# Altium schematic symbol library Power_Management.SchLib: 280 symbols (part 3 of 3)
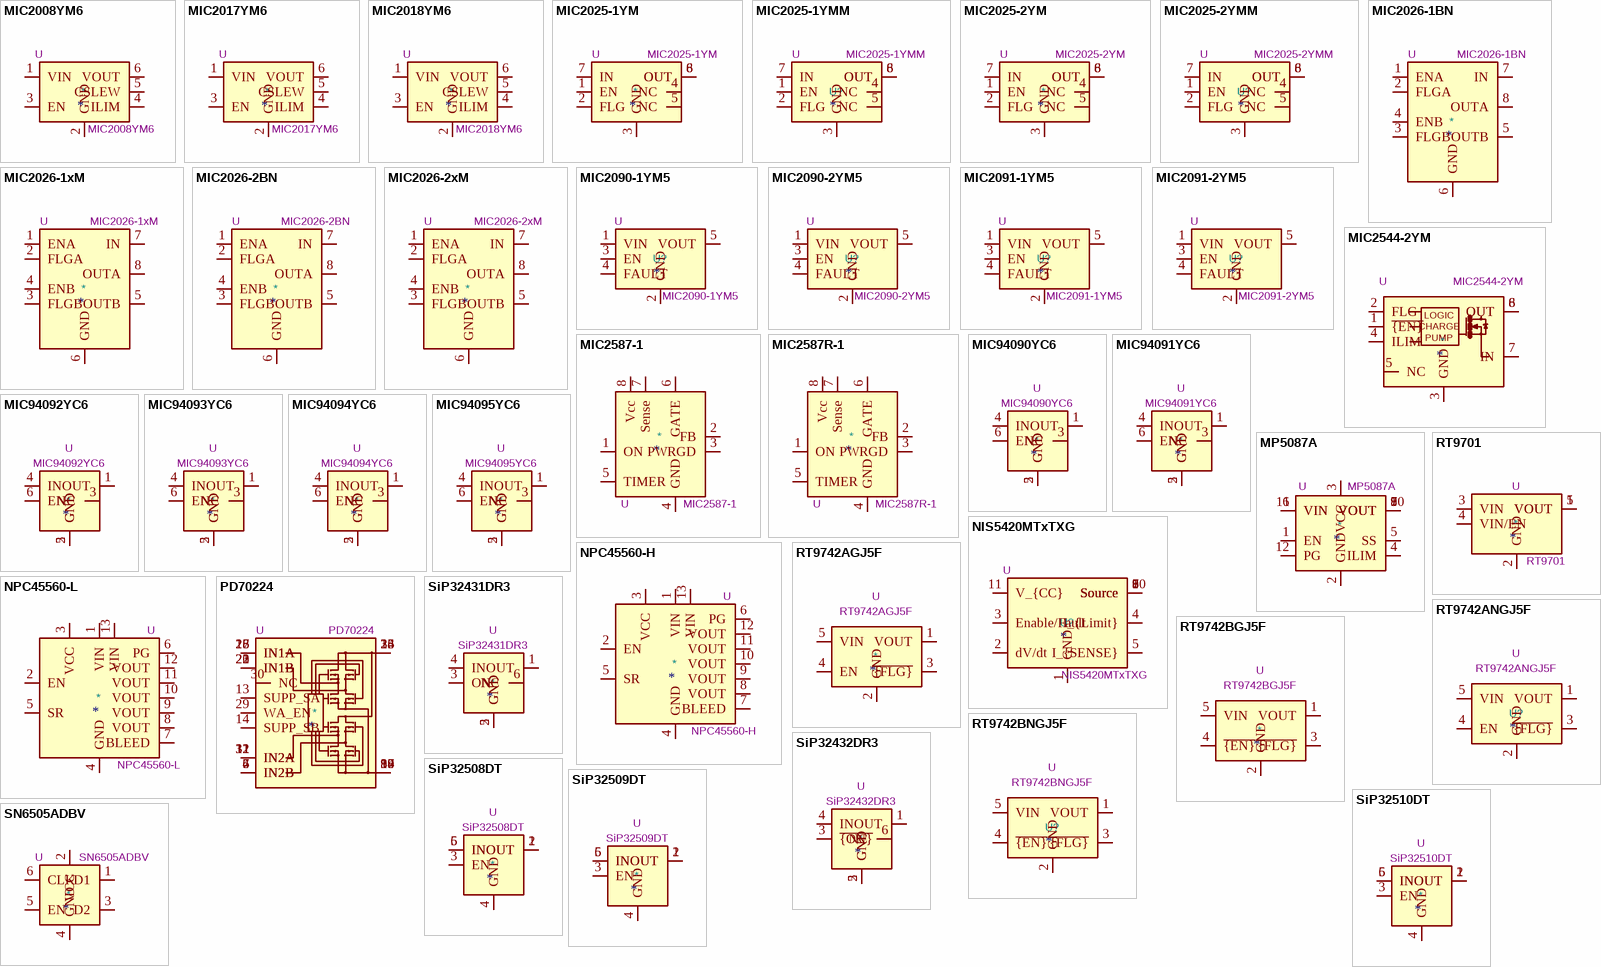
[diagram p9: symbols MIC2008YM6 to SN6505ADBV]

## MIC2025-1YM
designator *  value MIC2025-1YM  Reference: U
Single-channel, high side, power distribution switch, 2.7V-5.5V, Active High Output, SOIC-8; ki_keywords: mosfet distribution; ki_fp_filters: SOIC*3.9x4.9mm*P1.27mm*; Footprint: Package_SO:SOIC-8_3.9x4.9mm_P1.27mm; Datasheet: https://ww1.microchip.com/downloads/en/DeviceDoc/MIC2025-2075-Single-Channel-Power-Distribution-Switch-DS20006030A.pdf; Description_: Single-channel, high side, power distribution switch, 2.7V-5.5V, Active High Output, SOIC-8
pins: 1 EN, 2 FLG, 3 GND, 4 NC, 5 NC, 6 OUT, 7 IN, 8 OUT

## MIC2025-1YMM
designator U?  value MIC2025-1YMM  Reference: U
Single-channel, high side, power distribution switch, 2.7V-5.5V, Active High Output, MSOP-8; ki_keywords: mosfet distribution; ki_fp_filters: MSOP*3x3mm*P0.65mm*; Footprint: Package_SO:MSOP-8_3x3mm_P0.65mm; Datasheet: https://ww1.microchip.com/downloads/en/DeviceDoc/MIC2025-2075-Single-Channel-Power-Distribution-Switch-DS20006030A.pdf; Description_: Single-channel, high side, power distribution switch, 2.7V-5.5V, Active High Output, MSOP-8
pins: 1 EN, 2 FLG, 3 GND, 4 NC, 5 NC, 6 OUT, 7 IN, 8 OUT

## MIC2025-2YM
designator *  value MIC2025-2YM  Reference: U
Single-channel, high side, power distribution switch, 2.7V-5.5V, Active Low Output, SOIC-8; ki_keywords: mosfet distribution; ki_fp_filters: SOIC*3.9x4.9mm*P1.27mm*; Footprint: Package_SO:SOIC-8_3.9x4.9mm_P1.27mm; Datasheet: https://ww1.microchip.com/downloads/en/DeviceDoc/MIC2025-2075-Single-Channel-Power-Distribution-Switch-DS20006030A.pdf; Description_: Single-channel, high side, power distribution switch, 2.7V-5.5V, Active Low Output, SOIC-8
pins: 1 EN, 2 FLG, 3 GND, 4 NC, 5 NC, 6 OUT, 7 IN, 8 OUT

## MIC2025-2YMM
designator U?  value MIC2025-2YMM  Reference: U
Single-channel, high side, power distribution switch, 2.7V-5.5V, Active Low Output, MSOP-8; ki_keywords: mosfet distribution; ki_fp_filters: MSOP*3x3mm*P0.65mm*; Footprint: Package_SO:MSOP-8_3x3mm_P0.65mm; Datasheet: https://ww1.microchip.com/downloads/en/DeviceDoc/MIC2025-2075-Single-Channel-Power-Distribution-Switch-DS20006030A.pdf; Description_: Single-channel, high side, power distribution switch, 2.7V-5.5V, Active Low Output, MSOP-8
pins: 1 EN, 2 FLG, 3 GND, 4 NC, 5 NC, 6 OUT, 7 IN, 8 OUT

## MIC2026-1BN
designator *  value MIC2026-1BN  Reference: U
Dual-channel, high side, power distribution switch, 2.7V-5.5V, Active High Output, DIP-8; ki_keywords: mosfet distribution; ki_fp_filters: DIP*W7.62mm*; Footprint: Package_DIP:DIP-8_W7.62mm; Datasheet: http://ww1.microchip.com/downloads/en/DeviceDoc/mic2026.pdf; Description_: Dual-channel, high side, power distribution switch, 2.7V-5.5V, Active High Output, DIP-8
pins: 1 ENA, 2 FLGA, 3 FLGB, 4 ENB, 5 OUTB, 6 GND, 7 IN, 8 OUTA

## MIC2026-1xM
designator *  value MIC2026-1xM  Reference: U
Dual-channel, high side, power distribution switch, 2.7V-5.5V, Active High Output, SOIC-8; ki_keywords: mosfet distribution; ki_fp_filters: SOIC*3.9x4.9mm*P1.27mm*; Footprint: Package_SO:SOIC-8_3.9x4.9mm_P1.27mm; Datasheet: https://ww1.microchip.com/downloads/aemDocuments/documents/APID/ProductDocuments/DataSheets/MIC2026-MIC2076-Dual-Channel-Power-Distribution-Switch-DS20006443A.pdf; Description_: Dual-channel, high side, power distribution switch, 2.7V-5.5V, Active High Output, SOIC-8
pins: 1 ENA, 2 FLGA, 3 FLGB, 4 ENB, 5 OUTB, 6 GND, 7 IN, 8 OUTA

## MIC2026-2BN
designator *  value MIC2026-2BN  Reference: U
Dual-channel, high side, power distribution switch, 2.7V-5.5V, Active Low Output, DIP-8; ki_keywords: mosfet distribution; ki_fp_filters: DIP*W7.62mm*; Footprint: Package_DIP:DIP-8_W7.62mm; Datasheet: http://ww1.microchip.com/downloads/en/DeviceDoc/mic2026.pdf; Description_: Dual-channel, high side, power distribution switch, 2.7V-5.5V, Active Low Output, DIP-8
pins: 1 ENA, 2 FLGA, 3 FLGB, 4 ENB, 5 OUTB, 6 GND, 7 IN, 8 OUTA

## MIC2026-2xM
designator *  value MIC2026-2xM  Reference: U
Dual-channel, high side, power distribution switch, 2.7V-5.5V, Active Low Output, SOIC-8; ki_keywords: mosfet distribution; ki_fp_filters: SOIC*3.9x4.9mm*P1.27mm*; Footprint: Package_SO:SOIC-8_3.9x4.9mm_P1.27mm; Datasheet: https://ww1.microchip.com/downloads/aemDocuments/documents/APID/ProductDocuments/DataSheets/MIC2026-MIC2076-Dual-Channel-Power-Distribution-Switch-DS20006443A.pdf; Description_: Dual-channel, high side, power distribution switch, 2.7V-5.5V, Active Low Output, SOIC-8
pins: 1 ENA, 2 FLGA, 3 FLGB, 4 ENB, 5 OUTB, 6 GND, 7 IN, 8 OUTA

## MIC2090-1YM5
designator U?  value MIC2090-1YM5  Reference: U
Single-channel, high side, power distribution switch, 790mOhm Ron, auto-retry, 1.8V-5.5V, 50 mA, SOT-23-5; ki_keywords: mosfet distribution current limit; ki_fp_filters: SOT?23*; Footprint: Package_TO_SOT_SMD:SOT-23-5; Datasheet: https://ww1.microchip.com/downloads/aemDocuments/documents/APID/ProductDocuments/DataSheets/MIC2090-1-Current-Limiting-Power-Distribution-Switches-DS20006611A.pdf; Description_: Single-channel, high side, power distribution switch, 790mOhm Ron, auto-retry, 1.8V-5.5V, 50 mA, SOT-23-5
pins: 1 VIN, 2 GND, 3 EN, 4 FAULT, 5 VOUT

## MIC2090-2YM5
designator U?  value MIC2090-2YM5  Reference: U
Single-channel, high side, power distribution switch, 790mOhm Ron, latch-off on current limit, 1.8V-5.5V, 50 mA, SOT-23-5; ki_keywords: mosfet distribution current limit; ki_fp_filters: SOT?23*; Footprint: Package_TO_SOT_SMD:SOT-23-5; Datasheet: https://ww1.microchip.com/downloads/aemDocuments/documents/APID/ProductDocuments/DataSheets/MIC2090-1-Current-Limiting-Power-Distribution-Switches-DS20006611A.pdf; Description_: Single-channel, high side, power distribution switch, 790mOhm Ron, latch-off on current limit, 1.8V-5.5V, 50 mA, SOT-23-5
pins: 1 VIN, 2 GND, 3 EN, 4 FAULT, 5 VOUT

## MIC2091-1YM5
designator U?  value MIC2091-1YM5  Reference: U
Single-channel, high side, power distribution switch, 790mOhm Ron, auto-retry feature, 1.8V-5.5V, 100 mA, SOT-23-5; ki_keywords: mosfet distribution current limit; ki_fp_filters: SOT?23*; Footprint: Package_TO_SOT_SMD:SOT-23-5; Datasheet: https://ww1.microchip.com/downloads/aemDocuments/documents/APID/ProductDocuments/DataSheets/MIC2090-1-Current-Limiting-Power-Distribution-Switches-DS20006611A.pdf; Description_: Single-channel, high side, power distribution switch, 790mOhm Ron, auto-retry feature, 1.8V-5.5V, 100 mA, SOT-23-5
pins: 1 VIN, 2 GND, 3 EN, 4 FAULT, 5 VOUT

## MIC2091-2YM5
designator U?  value MIC2091-2YM5  Reference: U
Single-channel, high side, power distribution switch, 790mOhm Ron, latch-off on current limit, 1.8V-5.5V, 100 mA, SOT-23-5; ki_keywords: mosfet distribution current limit; ki_fp_filters: SOT?23*; Footprint: Package_TO_SOT_SMD:SOT-23-5; Datasheet: https://ww1.microchip.com/downloads/aemDocuments/documents/APID/ProductDocuments/DataSheets/MIC2090-1-Current-Limiting-Power-Distribution-Switches-DS20006611A.pdf; Description_: Single-channel, high side, power distribution switch, 790mOhm Ron, latch-off on current limit, 1.8V-5.5V, 100 mA, SOT-23-5
pins: 1 VIN, 2 GND, 3 EN, 4 FAULT, 5 VOUT

## MIC2544-2YM
designator *  value MIC2544-2YM  Reference: U
Programmable Current Sense High Side Switch, 2.7-5.5V, 1.5A, SOIC-8; ki_fp_filters: SOIC?8*; Footprint: Package_SO:SOIC-8_3.9x4.9mm_P1.27mm; Datasheet: https://ww1.microchip.com/downloads/en/DeviceDoc/20005725B.pdf; Description_: Programmable Current Sense High Side Switch, 2.7-5.5V, 1.5A, SOIC-8; ki_keywords: high side switch
pins: 1 ~{{EN}}, 2 FLG, 3 GND, 4 ILIM, 5 NC, 6 OUT, 7 IN, 8 OUT
text: LOGIC; CHARGE; PUMP

## MIC2587-1
designator *  value MIC2587-1  Reference: U
Positive high voltage hot swap controller +10V to +80V with latched operation; ki_keywords: power switch FET driver; ki_fp_filters: SOIC*3.9x4.9mm*P1.27mm*; Footprint: Package_SO:SOIC-8_3.9x4.9mm_P1.27mm; Datasheet: http://ww1.microchip.com/downloads/en/DeviceDoc/mic2587-87r.pdf; Description_: Positive high voltage hot swap controller +10V to +80V with latched operation
pins: 1 ON, 2 FB, 3 PWRGD, 4 GND, 5 TIMER, 6 GATE, 7 Sense, 8 Vcc

## MIC2587R-1
designator *  value MIC2587R-1  Reference: U
Positive high voltage hot swap controller +10V to +80V with auto-retry operation; ki_keywords: power switch FET driver; ki_fp_filters: SOIC*3.9x4.9mm*P1.27mm*; Footprint: Package_SO:SOIC-8_3.9x4.9mm_P1.27mm; Datasheet: http://ww1.microchip.com/downloads/en/DeviceDoc/mic2587-87r.pdf; Description_: Positive high voltage hot swap controller +10V to +80V with auto-retry operation
pins: 1 ON, 2 FB, 3 PWRGD, 4 GND, 5 TIMER, 6 GATE, 7 Sense, 8 Vcc

## MIC94090YC6
designator *  value MIC94090YC6  Reference: U
High Side Load Switches for Consumer Applications, 1.7..5.5V, 1.2A, 130mΩ, Fast Turn On, SC-70-6; ki_keywords: load-switch Microchip D1D; ki_fp_filters: *SC?70*; Footprint: Package_TO_SOT_SMD:SOT-363_SC-70-6; Datasheet: https://ww1.microchip.com/downloads/aemDocuments/documents/APID/ProductDocuments/DataSheets/MIC94090-1-2-3-4-5-High-Side-Load-Switches-for-Consumer-Applications-DS20006706.pdf; Description_: High Side Load Switches for Consumer Applications, 1.7..5.5V, 1.2A, 130mΩ, Fast Turn On, SC-70-6
pins: 1 OUT, 2 GND, 3 NC, 4 IN, 5 GND, 6 EN

## MIC94091YC6
designator *  value MIC94091YC6  Reference: U
High Side Load Switches for Consumer Applications, 1.7..5.5V, 1.2A, 130mΩ, Fast Turn On, Load Discharge, SC-70-6; ki_keywords: load-switch Microchip D2D; ki_fp_filters: *SC?70*; Footprint: Package_TO_SOT_SMD:SOT-363_SC-70-6; Datasheet: https://ww1.microchip.com/downloads/aemDocuments/documents/APID/ProductDocuments/DataSheets/MIC94090-1-2-3-4-5-High-Side-Load-Switches-for-Consumer-Applications-DS20006706.pdf; Description_: High Side Load Switches for Consumer Applications, 1.7..5.5V, 1.2A, 130mΩ, Fast Turn On, Load Discharge, SC-70-6
pins: 1 OUT, 2 GND, 3 NC, 4 IN, 5 GND, 6 EN

## MIC94092YC6
designator *  value MIC94092YC6  Reference: U
High Side Load Switches for Consumer Applications, 1.7..5.5V, 1.2A, 130mΩ, 790 µs Soft-Start, SC-70-6; ki_keywords: load-switch Microchip D5D; ki_fp_filters: *SC?70*; Footprint: Package_TO_SOT_SMD:SOT-363_SC-70-6; Datasheet: https://ww1.microchip.com/downloads/aemDocuments/documents/APID/ProductDocuments/DataSheets/MIC94090-1-2-3-4-5-High-Side-Load-Switches-for-Consumer-Applications-DS20006706.pdf; Description_: High Side Load Switches for Consumer Applications, 1.7..5.5V, 1.2A, 130mΩ, 790 µs Soft-Start, SC-70-6
pins: 1 OUT, 2 GND, 3 NC, 4 IN, 5 GND, 6 EN

## MIC94093YC6
designator *  value MIC94093YC6  Reference: U
High Side Load Switches for Consumer Applications, 1.7..5.5V, 1.2A, 130mΩ, 790 µs Soft-Start, Load Discharge, SC-70-6; ki_keywords: load-switch Microchip D7D; ki_fp_filters: *SC?70*; Footprint: Package_TO_SOT_SMD:SOT-363_SC-70-6; Datasheet: https://ww1.microchip.com/downloads/aemDocuments/documents/APID/ProductDocuments/DataSheets/MIC94090-1-2-3-4-5-High-Side-Load-Switches-for-Consumer-Applications-DS20006706.pdf; Description_: High Side Load Switches for Consumer Applications, 1.7..5.5V, 1.2A, 130mΩ, 790 µs Soft-Start, Load Discharge, SC-70-6
pins: 1 OUT, 2 GND, 3 NC, 4 IN, 5 GND, 6 EN

## MIC94094YC6
designator *  value MIC94094YC6  Reference: U
High Side Load Switches for Consumer Applications, 1.7..5.5V, 1.2A, 130mΩ, 120 µs Soft-Start, SC-70-6; ki_keywords: load-switch Microchip 0DD; ki_fp_filters: *SC?70*; Footprint: Package_TO_SOT_SMD:SOT-363_SC-70-6; Datasheet: https://ww1.microchip.com/downloads/aemDocuments/documents/APID/ProductDocuments/DataSheets/MIC94090-1-2-3-4-5-High-Side-Load-Switches-for-Consumer-Applications-DS20006706.pdf; Description_: High Side Load Switches for Consumer Applications, 1.7..5.5V, 1.2A, 130mΩ, 120 µs Soft-Start, SC-70-6
pins: 1 OUT, 2 GND, 3 NC, 4 IN, 5 GND, 6 EN

## MIC94095YC6
designator *  value MIC94095YC6  Reference: U
High Side Load Switches for Consumer Applications, 1.7..5.5V, 1.2A, 130mΩ, 120 µs Soft-Start, Load Discharge, SC-70-6; ki_keywords: load-switch Microchip 1DD; ki_fp_filters: *SC?70*; Footprint: Package_TO_SOT_SMD:SOT-363_SC-70-6; Datasheet: https://ww1.microchip.com/downloads/aemDocuments/documents/APID/ProductDocuments/DataSheets/MIC94090-1-2-3-4-5-High-Side-Load-Switches-for-Consumer-Applications-DS20006706.pdf; Description_: High Side Load Switches for Consumer Applications, 1.7..5.5V, 1.2A, 130mΩ, 120 µs Soft-Start, Load Discharge, SC-70-6
pins: 1 OUT, 2 GND, 3 NC, 4 IN, 5 GND, 6 EN

## MP5087A
designator *  value MP5087A  Reference: U
5.5V / 7A Low RDSON Load Switch with Programmable Current Limit, VQFN-12; ki_keywords: MPS; ki_fp_filters: *QFN*2x2mm*P0.4mm*; Footprint: Package_DFN_QFN:MPS_QFN-12_2x2mm_P0.4mm; Datasheet: https://www.monolithicpower.com/en/documentview/productdocument/index/version/2/document_type/Datasheet/lang/en/sku/MP5087A/; Description_: 5.5V / 7A Low RDSON Load Switch with Programmable Current Limit, VQFN-12
pins: 1 EN, 2 GND, 3 VCC, 4 ILIM, 5 SS, 6 VIN, 7 VOUT, 8 VOUT, 9 VOUT, 10 VOUT, 11 VIN, 12 PG

## NIS5420MTxTXG
designator U?  value NIS5420MTxTXG  Reference: U
ON Semi, +12V Electronic Fuse, 4.6A, WDFN-10; ki_keywords: 12V efuse resettable fuse; ki_fp_filters: WDFN*1EP*3x3mm*P0.5mm*; Footprint: Package_DFN_QFN:WDFN-10-1EP_3x3mm_P0.5mm_EP1.8x2.5mm; Datasheet: https://www.onsemi.com/pdf/datasheet/nis5420-d.pdf; Description_: ON Semi, +12V Electronic Fuse, 4.6A, WDFN-10
pins: 1 GND, 2 dV/dt, 3 Enable/Fault, 4 I_{Limit}, 5 I_{SENSE}, 6 Source, 7 Source, 8 Source, 9 Source, 10 Source, 11 V_{CC}

## NPC45560-H
designator *  value NPC45560-H  Reference: U
Controlled load switch with low Ron, DFN-12; ki_fp_filters: DFN*1EP?3x3mm?P0.5mm*; Footprint: Package_DFN_QFN:DFN-12-1EP_3x3mm_P0.5mm_EP2.05x2.86mm; Datasheet: http://www.onsemi.com/pub/Collateral/NCP45560-D.PDF; Description_: Controlled load switch with low Ron, DFN-12; ki_keywords: load switch
pins: 1 VIN, 2 EN, 3 VCC, 4 GND, 5 SR, 6 PG, 7 BLEED, 8 VOUT, 9 VOUT, 10 VOUT, 11 VOUT, 12 VOUT, 13 VIN

## NPC45560-L
designator *  value NPC45560-L  Reference: U
Controlled load switch with low Ron, DFN-12; ki_fp_filters: *DFN*12*; Footprint: Package_DFN_QFN:DFN-12-1EP_3x3mm_P0.5mm_EP2.05x2.86mm; Datasheet: http://www.onsemi.com/pub/Collateral/NCP45560-D.PDF; Description_: Controlled load switch with low Ron, DFN-12; ki_keywords: load switch
pins: 1 VIN, 2 EN, 3 VCC, 4 GND, 5 SR, 6 PG, 7 BLEED, 8 VOUT, 9 VOUT, 10 VOUT, 11 VOUT, 12 VOUT, 13 VIN

## PD70224
designator *  value PD70224  Reference: U
Ideal Dual Diode Bridge, QFN-40; ki_keywords: dual ideal diode bridge; ki_fp_filters: Microsemi*QFN*6x8mm*P0.5mm*; Footprint: Package_DFN_QFN:Microsemi_QFN-40-32-2EP_6x8mm_P0.5mm; Datasheet: https://www.microsemi.com/document-portal/doc_download/131677-pd70224-data-sheet; Description_: Ideal Dual Diode Bridge, QFN-40
pins: 1, 2, 3, 4 IN2B, 5 IN2B, 6 IN2B, 7 IN2B, 8, 9, 10, 11 IN2A, 12 IN2A, 13 SUPP_SA, 14 SUPP_SB, 15 IN1A, 16 IN1A, 17, 18, 19, 20 IN1B, 21 IN1B, 22 IN1B, 23 IN1B, 24, 25, 26, 27 IN1A, 28 IN1A, 29 WA_EN, 30 NC, 31 IN2A, 32 IN2A, 33, 34

## RT9701
designator *  value RT9701  Reference: U
100 milliohm power distribution switch, SOT-25; ki_fp_filters: SOT?23*; Datasheet: https://www.richtek.com/Products/Power%20Switch/RT9701?sc_lang=en; Description_: 100 milliohm power distribution switch, SOT-25; ki_keywords: power distribution switch
pins: 1 VOUT, 2 GND, 3 VIN, 4 VIN/EN, 5 VOUT

## RT9742AGJ5F
designator *  value RT9742AGJ5F  Reference: U
3A, Discharge, Active High EN, TSOT-23-5; ki_keywords: Power Switch; ki_fp_filters: TSOT?23*; Footprint: Package_TO_SOT_SMD:TSOT-23-5; Datasheet: https://www.richtek.com/assets/product_file/RT9742/DS9742-10.pdf; Description_: 3A, Discharge, Active High EN, TSOT-23-5
pins: 1 VOUT, 2 GND, 3 ~{{FLG}}, 4 EN, 5 VIN

## RT9742ANGJ5F
designator U?  value RT9742ANGJ5F  Reference: U
3A, Active High EN, TSOT-23-5; ki_keywords: Power Switch; ki_fp_filters: TSOT?23*; Footprint: Package_TO_SOT_SMD:TSOT-23-5; Datasheet: https://www.richtek.com/assets/product_file/RT9742/DS9742-10.pdf; Description_: 3A, Active High EN, TSOT-23-5
pins: 1 VOUT, 2 GND, 3 ~{{FLG}}, 4 EN, 5 VIN

## RT9742BGJ5F
designator *  value RT9742BGJ5F  Reference: U
3A, Discharge, Active Low EN, TSOT-23-5; ki_keywords: Power Switch; ki_fp_filters: TSOT?23*; Footprint: Package_TO_SOT_SMD:TSOT-23-5; Datasheet: https://www.richtek.com/assets/product_file/RT9742/DS9742-10.pdf; Description_: 3A, Discharge, Active Low EN, TSOT-23-5
pins: 1 VOUT, 2 GND, 3 ~{{FLG}}, 4 ~{{EN}}, 5 VIN

## RT9742BNGJ5F
designator U?  value RT9742BNGJ5F  Reference: U
3A, Active Low EN, TSOT-23-5; ki_keywords: Power Switch; ki_fp_filters: TSOT?23*; Footprint: Package_TO_SOT_SMD:TSOT-23-5; Datasheet: https://www.richtek.com/assets/product_file/RT9742/DS9742-10.pdf; Description_: 3A, Active Low EN, TSOT-23-5
pins: 1 VOUT, 2 GND, 3 ~{{FLG}}, 4 ~{{EN}}, 5 VIN

## SiP32431DR3
designator *  value SiP32431DR3  Reference: U
10 pA, Ultra Low Leakage and Quiescent Current, Load Switch with Reverse Blocking, High Enable, SC-70-6; ki_fp_filters: *SC?70*; Footprint: Package_TO_SOT_SMD:SOT-363_SC-70-6; Datasheet: http://www.vishay.com.hk/docs/66597/sip32431.pdf; Description_: 10 pA, Ultra Low Leakage and Quiescent Current, Load Switch with Reverse Blocking, High Enable, SC-70-6; ki_keywords: Load switch
pins: 1 OUT, 2 GND, 3 ON, 4 IN, 5 GND, 6 NC

## SiP32432DR3
designator *  value SiP32432DR3  Reference: U
10 pA, Ultra Low Leakage and Quiescent Current, Load Switch with Reverse Blocking, Low Enable, SC-70-6; ki_fp_filters: *SC?70*; Footprint: Package_TO_SOT_SMD:SOT-363_SC-70-6; Datasheet: http://www.vishay.com.hk/docs/66597/sip32431.pdf; Description_: 10 pA, Ultra Low Leakage and Quiescent Current, Load Switch with Reverse Blocking, Low Enable, SC-70-6; ki_keywords: Load switch
pins: 1 OUT, 2 GND, 3 ~{{ON}}, 4 IN, 5 GND, 6 NC

## SiP32508DT
designator *  value SiP32508DT  Reference: U
1.1 V to 5.5 V, Slew Rate Controlled Load Switch, TSOT23-6; ki_fp_filters: *TSOT?23*; Footprint: Package_TO_SOT_SMD:TSOT-23-6; Datasheet: https://www.vishay.com/docs/62754/sip32508.pdf; Description_: 1.1 V to 5.5 V, Slew Rate Controlled Load Switch, TSOT23-6; ki_keywords: Load switch
pins: 1 OUT, 2 OUT, 3 EN, 4 GND, 5 IN, 6 IN

## SiP32509DT
designator *  value SiP32509DT  Reference: U
1.1 V to 5.5 V, Slew Rate Controlled Load Switch with Discharge Circuit, TSOT23-6; ki_fp_filters: *TSOT?23*; Footprint: Package_TO_SOT_SMD:TSOT-23-6; Datasheet: https://www.vishay.com/docs/62754/sip32508.pdf; Description_: 1.1 V to 5.5 V, Slew Rate Controlled Load Switch with Discharge Circuit, TSOT23-6; ki_keywords: Load switch
pins: 1 OUT, 2 OUT, 3 EN, 4 GND, 5 IN, 6 IN

## SiP32510DT
designator *  value SiP32510DT  Reference: U
1.2 V to 5.5 V, Slew Rate Controlled Load Switch with Discharge Circuit, TSOT23-6; ki_fp_filters: *TSOT?23*; Footprint: Package_TO_SOT_SMD:TSOT-23-6; Datasheet: https://www.vishay.com/docs/63577/sip32510.pdf; Description_: 1.2 V to 5.5 V, Slew Rate Controlled Load Switch with Discharge Circuit, TSOT23-6; ki_keywords: Load switch
pins: 1 OUT, 2 OUT, 3 EN, 4 GND, 5 IN, 6 IN

## SN6505ADBV
designator *  value SN6505ADBV  Reference: U
Low Noise, 1A, Transformer Drivers for Isolated Power Supplies, 160 kHz, SOT-23-6; ki_fp_filters: SOT?23*; Footprint: Package_TO_SOT_SMD:SOT-23-6; Datasheet: http://www.ti.com/lit/ds/symlink/sn6505b.pdf; Description_: Low Noise, 1A, Transformer Drivers for Isolated Power Supplies, 160 kHz, SOT-23-6; ki_keywords: Transformer Drivers
pins: 1 D1, 2 VCC, 3 D2, 4 GND, 5 EN, 6 CLK

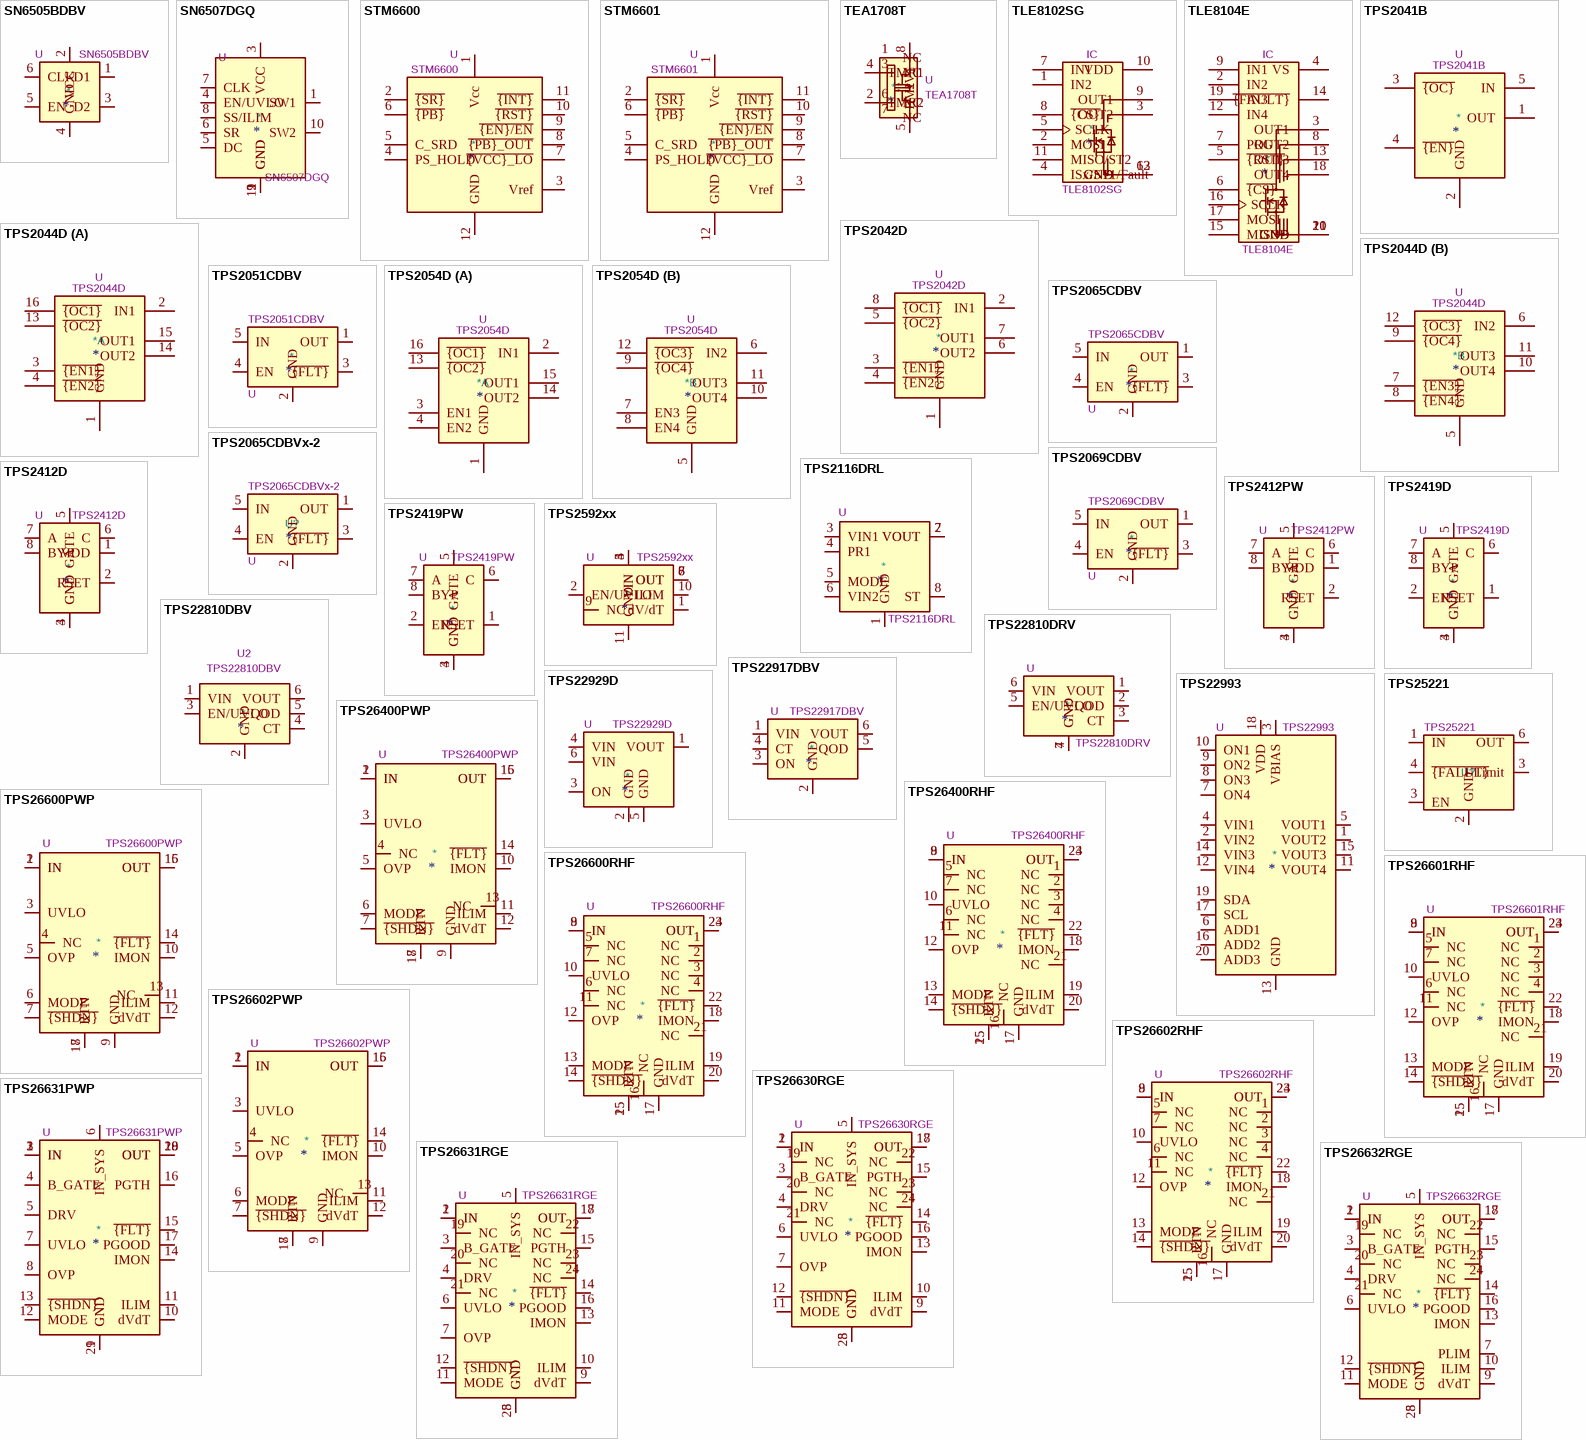
[diagram p6: symbols SN6505BDBV to TPS26632RGE]

## SN6505BDBV
designator *  value SN6505BDBV  Reference: U
Low Noise, 1A, Transformer Drivers for Isolated Power Supplies, 420 kHz, SOT-23-6; ki_fp_filters: SOT?23*; Footprint: Package_TO_SOT_SMD:SOT-23-6; Datasheet: http://www.ti.com/lit/ds/symlink/sn6505b.pdf; Description_: Low Noise, 1A, Transformer Drivers for Isolated Power Supplies, 420 kHz, SOT-23-6; ki_keywords: Transformer Drivers
pins: 1 D1, 2 VCC, 3 D2, 4 GND, 5 EN, 6 CLK

## SN6507DGQ
designator *  value SN6507DGQ  Reference: U
Low Noise, 0.5A, spread spectrum 36V Push-Pull-Transformer Drivers for Isolated Power Supplies, HVSSOP-10; ki_fp_filters: HVSSOP*3x3mm*P0.5mm*; Footprint: Package_SO:HVSSOP-10-1EP_3x3mm_P0.5mm_EP1.57x1.88mm; Datasheet: http://www.ti.com/lit/ds/symlink/sn6507.pdf; Description_: Low Noise, 0.5A, spread spectrum 36V Push-Pull-Transformer Drivers for Isolated Power Supplies, HVSSOP-10; ki_keywords: Transformer Drivers
pins: 1 SW1, 2 GND, 3 VCC, 4 EN/UVLO, 5 DC, 6 SR, 7 CLK, 8 SS/ILIM, 9 GND, 10 SW2, 11 GND

## STM6600
designator *  value STM6600  Reference: U
Smart push-button on/off controller, power-on lockout, Low Power, 1.6-5.5V, TDFN12; ki_keywords: push-button-controller low-power; ki_fp_filters: TDFN*2x3mm*P0.5mm*; Footprint: Package_DFN_QFN:TDFN-12_2x3mm_P0.5mm; Datasheet: http://www.st.com/resource/en/datasheet/stm6600.pdf; Description_: Smart push-button on/off controller, power-on lockout, Low Power, 1.6-5.5V, TDFN12
pins: 1 Vcc, 2 ~{{SR}}, 3 Vref, 4 PS_HOLD, 5 C_SRD, 6 ~{{PB}}, 7 ~{{VCC}_LO}, 8 ~{{PB}_OUT}, 9 ~{{EN}/EN}, 10 ~{{RST}}, 11 ~{{INT}}, 12 GND

## STM6601
designator *  value STM6601  Reference: U
Smart push-button on/off controller, power-on lockout, Low Power, 1.6-5.5V, TDFN12; ki_keywords: push-button-controller low-power; ki_fp_filters: TDFN*2x3mm*P0.5mm*; Footprint: Package_DFN_QFN:TDFN-12_2x3mm_P0.5mm; Datasheet: http://www.st.com/resource/en/datasheet/stm6600.pdf; Description_: Smart push-button on/off controller, power-on lockout, Low Power, 1.6-5.5V, TDFN12
pins: 1 Vcc, 2 ~{{SR}}, 3 Vref, 4 PS_HOLD, 5 C_SRD, 6 ~{{PB}}, 7 ~{{VCC}_LO}, 8 ~{{PB}_OUT}, 9 ~{{EN}/EN}, 10 ~{{RST}}, 11 ~{{INT}}, 12 GND

## TEA1708T
designator *  value TEA1708T  Reference: U
GreenChip X capacitor discharge IC, SOIC-8; ki_fp_filters: SOIC*3.9x4.9mm*P1.27mm*; Footprint: Package_SO:SOIC-8_3.9x4.9mm_P1.27mm; Datasheet: https://www.nxp.com/docs/en/data-sheet/TEA1708TDS.pdf; Description_: GreenChip X capacitor discharge IC, SOIC-8; ki_keywords: X capacitor discharge
pins: 1 NC, 2 TMR2, 3 NC, 4 TMR1, 5 HV2, 6 NC, 7 NC, 8 HV1

## TLE8102SG
designator *  value TLE8102SG  Reference: IC
Smart Dual Channel Powertrain Switch 2x8A (max 360mOhm); ki_keywords: Low_Side_Switch Power; ki_fp_filters: *PG?DSO*; Footprint: Package_SO:Infineon_PG-DSO-12-11_ThermalVias; Datasheet: http://www.infineon.com/dgdl/Infineon-TLE8102SG-DS-v01_05-en.pdf?fileId=db3a304319c6f18c0119c8384bf90042; Description_: Smart Dual Channel Powertrain Switch 2x8A (max 360mOhm)
pins: 1 IN2, 2 MOSI, 3 OUT2, 4 ISx/ST1/Fault, 5 SCLK, 6 GND, 7 IN1, 8 ~{{CS}}, 9 OUT1, 10 VDD, 11 MISO/ST2, 12 GND, 13 GND

## TLE8104E
designator *  value TLE8104E  Reference: IC
Smart Quad Channel Powertrain Switch 4x3A (In=1A, Ilim=3A, Ron=320mOhm); ki_keywords: Low_Side_Switch Power; ki_fp_filters: *PG?DSO*; Footprint: Package_SO:Infineon_PG-DSO-20-30_ThermalVias; Datasheet: http://www.infineon.com/dgdl/Infineon-TLE8104E-DS-v01_04-en.pdf?fileId=db3a304318f3fe2901190401cfda7f25; Description_: Smart Quad Channel Powertrain Switch 4x3A (In=1A, Ilim=3A, Ron=320mOhm)
pins: 1 GND, 2 IN2, 3 OUT1, 4 VS, 5 ~{{RST}}, 6 ~{{CS}}, 7 PRG, 8 OUT2, 9 IN1, 10 GND, 11 GND, 12 IN4, 13 OUT3, 14 ~{{FAULT}}, 15 MISO, 16 SCLK, 17 MOSI, 18 OUT4, 19 IN3, 20 GND, 21 GND

## TPS2041B
designator *  value TPS2041B  Reference: U
Single power-distribution switcher; ki_keywords: 1-chanel power-distribution USB; ki_fp_filters: SOT?23*; Footprint: Package_TO_SOT_SMD:SOT-23-5; Datasheet: http://www.ti.com/lit/ds/symlink/tps2041.pdf; Description_: Single power-distribution switcher
pins: 1 OUT, 2 GND, 3 ~{{OC}}, 4 ~{{EN}}, 5 IN

## TPS2042D
designator *  value TPS2042D  Reference: U
Dual power-distribution switcher; ki_keywords: 2-chanel power-distribution USB; ki_fp_filters: SOIC*3.9x4.9mm*1.27mm*; Footprint: Package_SO:SOIC-8_3.9x4.9mm_P1.27mm; Datasheet: http://www.ti.com/lit/ds/symlink/tps2042.pdf; Description_: Dual power-distribution switcher
pins: 1 GND, 2 IN1, 3 ~{{EN1}}, 4 ~{{EN2}}, 5 ~{{OC2}}, 6 OUT2, 7 OUT1, 8 ~{{OC1}}

## TPS2044D
designator *  value TPS2044D  Reference: U
Quad power-distribution switcher; ki_keywords: 4-chanel power-distribution USB; ki_fp_filters: SOIC*3.9x9.9mm*1.27mm*; Footprint: Package_SO:SOIC-16_3.9x9.9mm_P1.27mm; Datasheet: http://www.ti.com/lit/ds/symlink/tps2044.pdf; Description_: Quad power-distribution switcher
part A pins: 1 GND, 2 IN1, 3 ~{{EN1}}, 4 ~{{EN2}}, 13 ~{{OC2}}, 14 OUT2, 15 OUT1, 16 ~{{OC1}}
part B pins: 5 GND, 6 IN2, 7 ~{{EN3}}, 8 ~{{EN4}}, 9 ~{{OC4}}, 10 OUT4, 11 OUT3, 12 ~{{OC3}}

## TPS2051CDBV
designator *  value TPS2051CDBV  Reference: U
0.5A Current limited power switch, single channel, output discharge, reverse blocking, SOT-23-5; ki_keywords: Limit USB Active High; ki_fp_filters: SOT?23*; Footprint: Package_TO_SOT_SMD:SOT-23-5; Datasheet: https://www.ti.com/lit/ds/symlink/tps2051c.pdf; Description_: 0.5A Current limited power switch, single channel, output discharge, reverse blocking, SOT-23-5
pins: 1 OUT, 2 GND, 3 ~{{FLT}}, 4 EN, 5 IN

## TPS2054D
designator *  value TPS2054D  Reference: U
Quad power-distribution switcher; ki_keywords: 4-chanel power-distribution USB; ki_fp_filters: SOIC*3.9x9.9mm*1.27mm*; Footprint: Package_SO:SOIC-16_3.9x9.9mm_P1.27mm; Datasheet: http://www.ti.com/lit/ds/symlink/tps2044.pdf; Description_: Quad power-distribution switcher
part A pins: 1 GND, 2 IN1, 3 EN1, 4 EN2, 13 ~{{OC2}}, 14 OUT2, 15 OUT1, 16 ~{{OC1}}
part B pins: 5 GND, 6 IN2, 7 EN3, 8 EN4, 9 ~{{OC4}}, 10 OUT4, 11 OUT3, 12 ~{{OC3}}

## TPS2065CDBV
designator *  value TPS2065CDBV  Reference: U
1A Current limited power switch, single channel, output discharge, reverse blocking, SOT-23-5; ki_keywords: Limit USB Active High; ki_fp_filters: SOT?23*; Footprint: Package_TO_SOT_SMD:SOT-23-5; Datasheet: https://www.ti.com/lit/ds/symlink/tps2051c.pdf; Description_: 1A Current limited power switch, single channel, output discharge, reverse blocking, SOT-23-5
pins: 1 OUT, 2 GND, 3 ~{{FLT}}, 4 EN, 5 IN

## TPS2065CDBVx-2
designator U?  value TPS2065CDBVx-2  Reference: U
1A Current limited power switch, single channel, reverse blocking, SOT-23-5; ki_keywords: Limit USB Active High; ki_fp_filters: SOT?23*; Footprint: Package_TO_SOT_SMD:SOT-23-5; Datasheet: https://www.ti.com/lit/ds/symlink/tps2051c.pdf; Description_: 1A Current limited power switch, single channel, reverse blocking, SOT-23-5
pins: 1 OUT, 2 GND, 3 ~{{FLT}}, 4 EN, 5 IN

## TPS2069CDBV
designator *  value TPS2069CDBV  Reference: U
1.5A Current limited power switch, single channel, output discharge, reverse blocking, SOT-23-5; ki_keywords: Limit USB Active High; ki_fp_filters: SOT?23*; Footprint: Package_TO_SOT_SMD:SOT-23-5; Datasheet: https://www.ti.com/lit/ds/symlink/tps2051c.pdf; Description_: 1.5A Current limited power switch, single channel, output discharge, reverse blocking, SOT-23-5
pins: 1 OUT, 2 GND, 3 ~{{FLT}}, 4 EN, 5 IN

## TPS2116DRL
designator *  value TPS2116DRL  Reference: U
2 Channnels Power Mux with Manual and Priority Switchover, 1.6-5.5V Input Voltage, 2.5A Output Current, Ron 40 mOhm, SOT-583-8; ki_keywords: Texas-Instruments power-mux switchover; ki_fp_filters: SOT?5?3*; Footprint: Package_TO_SOT_SMD:SOT-583-8; Datasheet: https://www.ti.com/lit/ds/symlink/tps2116.pdf; Description_: 2 Channnels Power Mux with Manual and Priority Switchover, 1.6-5.5V Input Voltage, 2.5A Output Current, Ron 40 mOhm, SOT-583-8
pins: 1 GND, 2 VOUT, 3 VIN1, 4 PR1, 5 MODE, 6 VIN2, 7 VOUT, 8 ST

## TPS2412D
designator *  value TPS2412D  Reference: U
N+1 and ORing Power Rail Controller, SOIC-8; ki_keywords: ideal-diode or-ing; ki_fp_filters: TSSOP*4.4x3mm*P0.65mm* SOIC*3.9x4.9mm*P1.27mm*; Datasheet: http://www.ti.com/lit/ds/symlink/tps2412.pdf; Description_: N+1 and ORing Power Rail Controller, SOIC-8
pins: 1 VDD, 2 RSET, 3 GND, 4 GND, 5 GATE, 6 C, 7 A, 8 BYP

## TPS2412PW
designator *  value TPS2412PW  Reference: U
N+1 and ORing Power Rail Controller, TSSOP-8; ki_keywords: ideal-diode or-ing; ki_fp_filters: TSSOP*4.4x3mm*P0.65mm* SOIC*3.9x4.9mm*P1.27mm*; Datasheet: http://www.ti.com/lit/ds/symlink/tps2412.pdf; Description_: N+1 and ORing Power Rail Controller, TSSOP-8
pins: 1 VDD, 2 RSET, 3 GND, 4 GND, 5 GATE, 6 C, 7 A, 8 BYP

## TPS2419D
designator *  value TPS2419D  Reference: U
N+1 and ORing Power Rail Controller with Enable, SOIC-8; ki_keywords: ideal-diode or-ing; ki_fp_filters: TSSOP*4.4x3mm*P0.65mm* SOIC*3.9x4.9mm*P1.27mm*; Datasheet: http://www.ti.com/lit/ds/symlink/tps2419.pdf; Description_: N+1 and ORing Power Rail Controller with Enable, SOIC-8
pins: 1 RSET, 2 EN, 3 GND, 4 GND, 5 GATE, 6 C, 7 A, 8 BYP

## TPS2419PW
designator *  value TPS2419PW  Reference: U
N+1 and ORing Power Rail Controller with Enable, TSSOP-8; ki_keywords: ideal-diode or-ing; ki_fp_filters: TSSOP*4.4x3mm*P0.65mm* SOIC*3.9x4.9mm*P1.27mm*; Datasheet: http://www.ti.com/lit/ds/symlink/tps2419.pdf; Description_: N+1 and ORing Power Rail Controller with Enable, TSSOP-8
pins: 1 RSET, 2 EN, 3 GND, 4 GND, 5 GATE, 6 C, 7 A, 8 BYP

## TPS2592xx
designator *  value TPS2592xx  Reference: U
5V/12V eFuse Protection Switch (VSON-10); ki_fp_filters: VSON*1EP*3x3mm*P0.5mm*; Footprint: Package_SON:VSON-10-1EP_3x3mm_P0.5mm_EP1.65x2.4mm_ThermalVias; Datasheet: http://www.ti.com/lit/ds/symlink/tps25925.pdf; Description_: 5V/12V eFuse Protection Switch (VSON-10); ki_keywords: efuse protection switch
pins: 1 dV/dT, 2 EN/UVLO, 3 VIN, 4 VIN, 5 VIN, 6 OUT, 7 OUT, 8 OUT, 9 NC, 10 ILIM, 11 GND

## TPS22810DBV
designator *  value TPS22810DBV  Reference: U2
2.7..18V, 2A, 79mohms On-Resistance Load Switch With Thermal Protection, SOT-23-6; ki_keywords: thermal-protection QOD quick-output-discharge; ki_fp_filters: SOT?23*; Footprint: Package_TO_SOT_SMD:SOT-23-6; Datasheet: http://www.ti.com/lit/ds/symlink/tps22810.pdf; Description_: 2.7..18V, 2A, 79mohms On-Resistance Load Switch With Thermal Protection, SOT-23-6
pins: 1 VIN, 2 GND, 3 EN/UVLO, 4 CT, 5 QOD, 6 VOUT

## TPS22810DRV
designator *  value TPS22810DRV  Reference: U
2.7..18V, 3A, 79mohms On-Resistance Load Switch With Thermal Protection, WSON-6; ki_keywords: load switch thermal protection QOD quick-output-discharge; ki_fp_filters: WSON*1EP*2x2mm*P0.65mm*; Footprint: Package_SON:WSON-6-1EP_2x2mm_P0.65mm_EP1x1.6mm; Datasheet: http://www.ti.com/lit/ds/symlink/tps22810.pdf; Description_: 2.7..18V, 3A, 79mohms On-Resistance Load Switch With Thermal Protection, WSON-6
pins: 1 VOUT, 2 QOD, 3 CT, 4 GND, 5 EN/UVLO, 6 VIN, 7 GND

## TPS22917DBV
designator *  value TPS22917DBV  Reference: U
1V to 5.5V, 2A, 80mΩ Ultra-Low Leakage Load Switch, SOT23-6; ki_keywords: high-side power distribution switch; ki_fp_filters: SOT?23*; Footprint: Package_TO_SOT_SMD:SOT-23-6; Datasheet: http://www.ti.com/lit/ds/symlink/tps22917.pdf; Description_: 1V to 5.5V, 2A, 80mΩ Ultra-Low Leakage Load Switch, SOT23-6
pins: 1 VIN, 2 GND, 3 ON, 4 CT, 5 QOD, 6 VOUT

## TPS22929D
designator *  value TPS22929D  Reference: U
High side, power distribution switch, 1.4V-5.5V, 1.8A, SOT23-6 package; ki_keywords: high-side power distribution switch; ki_fp_filters: SOT?23*; Footprint: Package_TO_SOT_SMD:SOT-23-6; Datasheet: http://www.ti.com/lit/ds/symlink/tps22929d.pdf; Description_: High side, power distribution switch, 1.4V-5.5V, 1.8A, SOT23-6 package
pins: 1 VOUT, 2 GND, 3 ON, 4 VIN, 5 GND, 6 VIN

## TPS22993
designator *  value TPS22993  Reference: U
Quad Channel Load Switch with GPIO and I2C Control, Bias voltage: 4.5V-17.2V, Input voltage: 1.0V-3.6V, Max 1.2A per channel, WQFN-20; ki_keywords: quad channel power distribution/load switch; ki_fp_filters: Texas*PWQFN*; Footprint: Package_DFN_QFN:Texas_S-PWQFN-N20; Datasheet: http://www.ti.com/lit/gpn/tps22993; Description_: Quad Channel Load Switch with GPIO and I2C Control, Bias voltage: 4.5V-17.2V, Input voltage: 1.0V-3.6V, Max 1.2A per channel, WQFN-20
pins: 1 VOUT2, 2 VIN2, 3 VBIAS, 4 VIN1, 5 VOUT1, 6 ADD1, 7 ON4, 8 ON3, 9 ON2, 10 ON1, 11 VOUT4, 12 VIN4, 13 GND, 14 VIN3, 15 VOUT3, 16 ADD2, 17 SCL, 18 VDD, 19 SDA, 20 ADD3

## TPS25221
designator U?  value TPS25221  (hidden comment: *)
0.275-2.7A adj. ILIMIT, 2.5-5.5V, 70mΩ USB power switch, active-high, reverse blocking; Manufacturer: Texas Instruments; Manufacturer Lifecycle Status: ACTIVE; Manufacturer Part Number: TPS25221DBVR; Description_: Current limited 2.0A power switch, single channel, SOT-23-5; ki_keywords: Limit USB Active High; ki_fp_filters: SOT?23*; Reference: U; Number of Channels: 1; Footprint: Package_TO_SOT_SMD:SOT-23-6; Datasheet: https://www.diodes.com/assets/Datasheets/AP22816_17_18.pdf; Case/Package: SOT-23; Category: USB Interface ICs; Height: 0m; Length: 2.9mm; Lifecycle Status: Production; Pins: 6; RoHS: Compliant; Schedule B: 8542390000, 8542390000|8542390000|8542390000|8542390000|8542390000|8542390000|8542390000|8542390000|8542390000|8542390000|8542390000|8542390000|8542390000|8542390000|8542390000|8542390000|8542390000|8542390000|8542390000|8542390000|8542390000|8542390000|8542390000|85; Thickness: 1.2mm; Width: 1.6mm; Supplier 1: Mouser; Supplier Part Number 1: 595-TPS25221DBVR; Supplier Packaging 1: Tape & Reel; Supplier Unit Price 1: $0.62; Supplier Location 1: US; DNP: *
footprint SOT-23-6
pins: 1 IN, 2 GND, 3 I-Limit, 3 EN, 4 ~{{FALUT}}, 6 OUT

## TPS26400PWP
designator *  value TPS26400PWP  Reference: U
42V, 2A Current Limiting, Industrial eFuse, Reverse Current Blocking, Adjustable Overvoltage cut-off, Active Current Limiting, Circuit Breaker with auto-retry, HTSSOP-16; ki_keywords: efuse protection switch; ki_fp_filters: HTSSOP*1EP*4.4x5mm*P0.65mm*Mask2.66x2.46mm*; Footprint: Package_SO:HTSSOP-16-1EP_4.4x5mm_P0.65mm_EP3.4x5mm_Mask2.66x2.46mm_ThermalVias; Datasheet: https://www.ti.com/lit/ds/symlink/tps2640.pdf; Description_: 42V, 2A Current Limiting, Industrial eFuse, Reverse Current Blocking, Adjustable Overvoltage cut-off, Active Current Limiting, Circuit Breaker with auto-retry, HTSSOP-16
pins: 1 IN, 2 IN, 3 UVLO, 4 NC, 5 OVP, 6 MODE, 7 ~{{SHDN}}, 8 RTN, 9 GND, 10 IMON, 11 ILIM, 12 dVdT, 13 NC, 14 ~{{FLT}}, 15 OUT, 16 OUT, 17 RTN

## TPS26400RHF
designator *  value TPS26400RHF  Reference: U
42V, 2A Current Limiting, Industrial eFuse, Reverse Current Blocking, Adjustable Overvoltage cut-off, Active Current Limiting, Circuit Breaker with auto-retry, VQFN-24; ki_keywords: efuse protection switch; ki_fp_filters: Texas*RHF0024A*; Footprint: Package_DFN_QFN:Texas_RHF0024A_VQFN-24-1EP_4x5mm_P0.5mm_EP2.65x3.65mm_ThermalVias; Datasheet: https://www.ti.com/lit/ds/symlink/tps2640.pdf; Description_: 42V, 2A Current Limiting, Industrial eFuse, Reverse Current Blocking, Adjustable Overvoltage cut-off, Active Current Limiting, Circuit Breaker with auto-retry, VQFN-24
pins: 1 NC, 2 NC, 3 NC, 4 NC, 5 NC, 6 NC, 7 NC, 8 IN, 9 IN, 10 UVLO, 11 NC, 12 OVP, 13 MODE, 14 ~{{SHDN}}, 15 RTN, 16 NC, 17 GND, 18 IMON, 19 ILIM, 20 dVdT, 21 NC, 22 ~{{FLT}}, 23 OUT, 24 OUT, 25 RTN

## TPS26600PWP
designator *  value TPS26600PWP  Reference: U
60V, 2A Current Limiting, Industrial eFuse, Reverse Current Blocking, Adjustable Overvoltage cut-off, Active Current Limiting, Circuit Breaker with auto-retry, HTSSOP-16; ki_keywords: efuse protection switch; ki_fp_filters: HTSSOP*1EP*4.4x5mm*P0.65mm*Mask2.66x2.46mm*; Footprint: Package_SO:HTSSOP-16-1EP_4.4x5mm_P0.65mm_EP3.4x5mm_Mask2.66x2.46mm_ThermalVias; Datasheet: https://www.ti.com/lit/ds/symlink/tps2660.pdf; Description_: 60V, 2A Current Limiting, Industrial eFuse, Reverse Current Blocking, Adjustable Overvoltage cut-off, Active Current Limiting, Circuit Breaker with auto-retry, HTSSOP-16
pins: 1 IN, 2 IN, 3 UVLO, 4 NC, 5 OVP, 6 MODE, 7 ~{{SHDN}}, 8 RTN, 9 GND, 10 IMON, 11 ILIM, 12 dVdT, 13 NC, 14 ~{{FLT}}, 15 OUT, 16 OUT, 17 RTN

## TPS26600RHF
designator *  value TPS26600RHF  Reference: U
60V, 2A Current Limiting, Industrial eFuse, Reverse Current Blocking, Adjustable Overvoltage cut-off, Active Current Limiting, Circuit Breaker with auto-retry, VQFN-24; ki_keywords: efuse protection switch; ki_fp_filters: Texas*RHF0024A*; Footprint: Package_DFN_QFN:Texas_RHF0024A_VQFN-24-1EP_4x5mm_P0.5mm_EP2.65x3.65mm_ThermalVias; Datasheet: https://www.ti.com/lit/ds/symlink/tps2660.pdf; Description_: 60V, 2A Current Limiting, Industrial eFuse, Reverse Current Blocking, Adjustable Overvoltage cut-off, Active Current Limiting, Circuit Breaker with auto-retry, VQFN-24
pins: 1 NC, 2 NC, 3 NC, 4 NC, 5 NC, 6 NC, 7 NC, 8 IN, 9 IN, 10 UVLO, 11 NC, 12 OVP, 13 MODE, 14 ~{{SHDN}}, 15 RTN, 16 NC, 17 GND, 18 IMON, 19 ILIM, 20 dVdT, 21 NC, 22 ~{{FLT}}, 23 OUT, 24 OUT, 25 RTN

## TPS26601RHF
designator *  value TPS26601RHF  Reference: U
60V, 2A Current Limiting, Industrial eFuse, Reverse Current Blocking, Adjustable Overvoltage cut-off, Active Current Limiting, Circuit Breaker with latch, VQFN-24; ki_keywords: efuse protection switch; ki_fp_filters: Texas*RHF0024A*; Footprint: Package_DFN_QFN:Texas_RHF0024A_VQFN-24-1EP_4x5mm_P0.5mm_EP2.65x3.65mm_ThermalVias; Datasheet: https://www.ti.com/lit/ds/symlink/tps2660.pdf; Description_: 60V, 2A Current Limiting, Industrial eFuse, Reverse Current Blocking, Adjustable Overvoltage cut-off, Active Current Limiting, Circuit Breaker with latch, VQFN-24
pins: 1 NC, 2 NC, 3 NC, 4 NC, 5 NC, 6 NC, 7 NC, 8 IN, 9 IN, 10 UVLO, 11 NC, 12 OVP, 13 MODE, 14 ~{{SHDN}}, 15 RTN, 16 NC, 17 GND, 18 IMON, 19 ILIM, 20 dVdT, 21 NC, 22 ~{{FLT}}, 23 OUT, 24 OUT, 25 RTN

## TPS26602PWP
designator *  value TPS26602PWP  Reference: U
60V, 2A Current Limiting, Industrial eFuse, Reverse Current Blocking, 38V Overvoltage clamp, Active Current Limiting, Circuit Breaker with auto-retry, HTSSOP-16; ki_keywords: efuse protection switch; ki_fp_filters: HTSSOP*1EP*4.4x5mm*P0.65mm*Mask2.66x2.46mm*; Footprint: Package_SO:HTSSOP-16-1EP_4.4x5mm_P0.65mm_EP3.4x5mm_Mask2.66x2.46mm_ThermalVias; Datasheet: https://www.ti.com/lit/ds/symlink/tps2660.pdf; Description_: 60V, 2A Current Limiting, Industrial eFuse, Reverse Current Blocking, 38V Overvoltage clamp, Active Current Limiting, Circuit Breaker with auto-retry, HTSSOP-16
pins: 1 IN, 2 IN, 3 UVLO, 4 NC, 5 OVP, 6 MODE, 7 ~{{SHDN}}, 8 RTN, 9 GND, 10 IMON, 11 ILIM, 12 dVdT, 13 NC, 14 ~{{FLT}}, 15 OUT, 16 OUT, 17 RTN

## TPS26602RHF
designator *  value TPS26602RHF  Reference: U
60V, 2A Current Limiting, Industrial eFuse, Reverse Current Blocking, 38V Overvoltage clamp, Active Current Limiting, Circuit Breaker with auto-retry, VQFN-24; ki_keywords: efuse protection switch; ki_fp_filters: Texas*RHF0024A*; Footprint: Package_DFN_QFN:Texas_RHF0024A_VQFN-24-1EP_4x5mm_P0.5mm_EP2.65x3.65mm_ThermalVias; Datasheet: https://www.ti.com/lit/ds/symlink/tps2660.pdf; Description_: 60V, 2A Current Limiting, Industrial eFuse, Reverse Current Blocking, 38V Overvoltage clamp, Active Current Limiting, Circuit Breaker with auto-retry, VQFN-24
pins: 1 NC, 2 NC, 3 NC, 4 NC, 5 NC, 6 NC, 7 NC, 8 IN, 9 IN, 10 UVLO, 11 NC, 12 OVP, 13 MODE, 14 ~{{SHDN}}, 15 RTN, 16 NC, 17 GND, 18 IMON, 19 ILIM, 20 dVdT, 21 NC, 22 ~{{FLT}}, 23 OUT, 24 OUT, 25 RTN

## TPS26630RGE
designator *  value TPS26630RGE  Reference: U
60V, 6A Power Limiting, Surge Protection Industrial eFuse, Adjustable Overvoltage cut-off, Active Current Limiting, VQFN-24; ki_keywords: efuse protection switch; ki_fp_filters: Texas*RGE0024H*; Footprint: Package_DFN_QFN:Texas_RGE0024H_VQFN-24-1EP_4x4mm_P0.5mm_EP2.7x2.7mm_ThermalVias; Datasheet: https://www.ti.com/lit/ds/symlink/tps2663.pdf; Description_: 60V, 6A Power Limiting, Surge Protection Industrial eFuse, Adjustable Overvoltage cut-off, Active Current Limiting, VQFN-24
pins: 1 IN, 2 IN, 3 B_GATE, 4 DRV, 5 IN_SYS, 6 UVLO, 7 OVP, 8 GND, 9 dVdT, 10 ILIM, 11 MODE, 12 ~{{SHDN}}, 13 IMON, 14 ~{{FLT}}, 15 PGTH, 16 PGOOD, 17 OUT, 18 OUT, 19 NC, 20 NC, 21 NC, 22 NC, 23 NC, 24 NC, 25 GND

## TPS26631PWP
designator *  value TPS26631PWP  Reference: U
60V, 6A Power Limiting, Surge Protection Industrial eFuse, Adjustable Overvoltage cut-off, Active Current Limiting with Pulse current support, HTTSOP-20; ki_keywords: efuse protection switch; ki_fp_filters: HTSSOP*1EP*4.4x6.5mm*P0.65mm*; Footprint: Package_SO:HTSSOP-20-1EP_4.4x6.5mm_P0.65mm_EP3.4x6.5mm_Mask2.96x2.96mm_ThermalVias; Datasheet: https://www.ti.com/lit/ds/symlink/tps2663.pdf; Description_: 60V, 6A Power Limiting, Surge Protection Industrial eFuse, Adjustable Overvoltage cut-off, Active Current Limiting with Pulse current support, HTTSOP-20
pins: 1 IN, 2 IN, 3 IN, 4 B_GATE, 5 DRV, 6 IN_SYS, 7 UVLO, 8 OVP, 9 GND, 10 dVdT, 11 ILIM, 12 MODE, 13 ~{{SHDN}}, 14 IMON, 15 ~{{FLT}}, 16 PGTH, 17 PGOOD, 18 OUT, 19 OUT, 20 OUT, 21 GND

## TPS26631RGE
designator *  value TPS26631RGE  Reference: U
60V, 6A Power Limiting, Surge Protection Industrial eFuse, Adjustable Overvoltage cut-off, Active Current Limiting with Pulse current support, VQFN-24; ki_keywords: efuse protection switch; ki_fp_filters: Texas*RGE0024H*; Footprint: Package_DFN_QFN:Texas_RGE0024H_VQFN-24-1EP_4x4mm_P0.5mm_EP2.7x2.7mm_ThermalVias; Datasheet: https://www.ti.com/lit/ds/symlink/tps2663.pdf; Description_: 60V, 6A Power Limiting, Surge Protection Industrial eFuse, Adjustable Overvoltage cut-off, Active Current Limiting with Pulse current support, VQFN-24
pins: 1 IN, 2 IN, 3 B_GATE, 4 DRV, 5 IN_SYS, 6 UVLO, 7 OVP, 8 GND, 9 dVdT, 10 ILIM, 11 MODE, 12 ~{{SHDN}}, 13 IMON, 14 ~{{FLT}}, 15 PGTH, 16 PGOOD, 17 OUT, 18 OUT, 19 NC, 20 NC, 21 NC, 22 NC, 23 NC, 24 NC, 25 GND

## TPS26632RGE
designator *  value TPS26632RGE  Reference: U
60V, 6A Power Limiting, Surge Protection Industrial eFuse, 35V fixed Overvoltage clamp, Active Current Limiting, VQFN-24; ki_keywords: efuse protection switch; ki_fp_filters: Texas*RGE0024H*; Footprint: Package_DFN_QFN:Texas_RGE0024H_VQFN-24-1EP_4x4mm_P0.5mm_EP2.7x2.7mm_ThermalVias; Datasheet: https://www.ti.com/lit/ds/symlink/tps2663.pdf; Description_: 60V, 6A Power Limiting, Surge Protection Industrial eFuse, 35V fixed Overvoltage clamp, Active Current Limiting, VQFN-24
pins: 1 IN, 2 IN, 3 B_GATE, 4 DRV, 5 IN_SYS, 6 UVLO, 7 PLIM, 8 GND, 9 dVdT, 10 ILIM, 11 MODE, 12 ~{{SHDN}}, 13 IMON, 14 ~{{FLT}}, 15 PGTH, 16 PGOOD, 17 OUT, 18 OUT, 19 NC, 20 NC, 21 NC, 22 NC, 23 NC, 24 NC, 25 GND

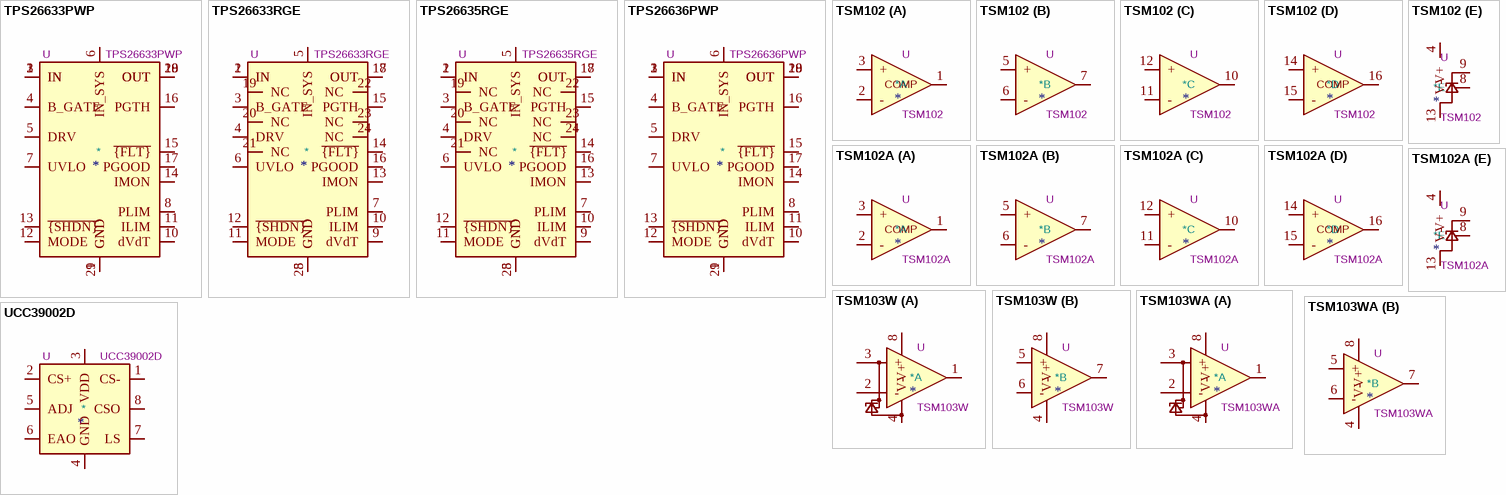
[diagram p7: symbols TPS26633PWP to UCC39002D]

## TPS26633PWP
designator *  value TPS26633PWP  Reference: U
60V, 6A Power Limiting, Surge Protection Industrial eFuse, 35V fixed Overvoltage clamp, Active Current Limiting with Pulse current support, HTTSOP-20; ki_keywords: efuse protection switch; ki_fp_filters: HTSSOP*1EP*4.4x6.5mm*P0.65mm*; Footprint: Package_SO:HTSSOP-20-1EP_4.4x6.5mm_P0.65mm_EP3.4x6.5mm_Mask2.96x2.96mm_ThermalVias; Datasheet: https://www.ti.com/lit/ds/symlink/tps2663.pdf; Description_: 60V, 6A Power Limiting, Surge Protection Industrial eFuse, 35V fixed Overvoltage clamp, Active Current Limiting with Pulse current support, HTTSOP-20
pins: 1 IN, 2 IN, 3 IN, 4 B_GATE, 5 DRV, 6 IN_SYS, 7 UVLO, 8 PLIM, 9 GND, 10 dVdT, 11 ILIM, 12 MODE, 13 ~{{SHDN}}, 14 IMON, 15 ~{{FLT}}, 16 PGTH, 17 PGOOD, 18 OUT, 19 OUT, 20 OUT, 21 GND

## TPS26633RGE
designator *  value TPS26633RGE  Reference: U
60V, 6A Power Limiting, Surge Protection Industrial eFuse, 35V fixed Overvoltage clamp, Active Current Limiting with Pulse current support, VQFN-24; ki_keywords: efuse protection switch; ki_fp_filters: Texas*RGE0024H*; Footprint: Package_DFN_QFN:Texas_RGE0024H_VQFN-24-1EP_4x4mm_P0.5mm_EP2.7x2.7mm_ThermalVias; Datasheet: https://www.ti.com/lit/ds/symlink/tps2663.pdf; Description_: 60V, 6A Power Limiting, Surge Protection Industrial eFuse, 35V fixed Overvoltage clamp, Active Current Limiting with Pulse current support, VQFN-24
pins: 1 IN, 2 IN, 3 B_GATE, 4 DRV, 5 IN_SYS, 6 UVLO, 7 PLIM, 8 GND, 9 dVdT, 10 ILIM, 11 MODE, 12 ~{{SHDN}}, 13 IMON, 14 ~{{FLT}}, 15 PGTH, 16 PGOOD, 17 OUT, 18 OUT, 19 NC, 20 NC, 21 NC, 22 NC, 23 NC, 24 NC, 25 GND

## TPS26635RGE
designator *  value TPS26635RGE  Reference: U
60V, 6A Power Limiting, Surge Protection Industrial eFuse, 39V fixed Overvoltage clamp, Active Current Limiting with Pulse current support, VQFN-24; ki_keywords: efuse protection switch; ki_fp_filters: Texas*RGE0024H*; Footprint: Package_DFN_QFN:Texas_RGE0024H_VQFN-24-1EP_4x4mm_P0.5mm_EP2.7x2.7mm_ThermalVias; Datasheet: https://www.ti.com/lit/ds/symlink/tps2663.pdf; Description_: 60V, 6A Power Limiting, Surge Protection Industrial eFuse, 39V fixed Overvoltage clamp, Active Current Limiting with Pulse current support, VQFN-24
pins: 1 IN, 2 IN, 3 B_GATE, 4 DRV, 5 IN_SYS, 6 UVLO, 7 PLIM, 8 GND, 9 dVdT, 10 ILIM, 11 MODE, 12 ~{{SHDN}}, 13 IMON, 14 ~{{FLT}}, 15 PGTH, 16 PGOOD, 17 OUT, 18 OUT, 19 NC, 20 NC, 21 NC, 22 NC, 23 NC, 24 NC, 25 GND

## TPS26636PWP
designator *  value TPS26636PWP  Reference: U
60V, 6A Power Limiting, Surge Protection Industrial eFuse, 35V fixed Overvoltage clamp, Active Current Limiting with Pulse current support, HTTSOP-20; ki_keywords: efuse protection switch; ki_fp_filters: HTSSOP*1EP*4.4x6.5mm*P0.65mm*; Footprint: Package_SO:HTSSOP-20-1EP_4.4x6.5mm_P0.65mm_EP3.4x6.5mm_Mask2.96x2.96mm_ThermalVias; Datasheet: https://www.ti.com/lit/ds/symlink/tps2663.pdf; Description_: 60V, 6A Power Limiting, Surge Protection Industrial eFuse, 35V fixed Overvoltage clamp, Active Current Limiting with Pulse current support, HTTSOP-20
pins: 1 IN, 2 IN, 3 IN, 4 B_GATE, 5 DRV, 6 IN_SYS, 7 UVLO, 8 PLIM, 9 GND, 10 dVdT, 11 ILIM, 12 MODE, 13 ~{{SHDN}}, 14 IMON, 15 ~{{FLT}}, 16 PGTH, 17 PGOOD, 18 OUT, 19 OUT, 20 OUT, 21 GND

## TSM102
designator *  value TSM102  Reference: U
Dual Operational Amplifier and Dual Comparator and 1% Voltage Reference, SOIC-16; ki_keywords: dual opamp comparator reference; ki_fp_filters: SOIC*3.9x9.9mm*P1.27mm*; Footprint: Package_SO:SOIC-16_3.9x9.9mm_P1.27mm; Datasheet: http://www.st.com/resource/en/datasheet/tsm102.pdf; Description_: Dual Operational Amplifier and Dual Comparator and 1% Voltage Reference, SOIC-16
part A pins: 1, 2 -, 3 +
part B pins: 5 +, 6 -, 7
part C pins: 10, 11 -, 12 +
part D pins: 14 +, 15 -, 16
part E pins: 4 V+, 8, 9, 13 V-
part A text: COMP
part D text: COMP

## TSM102A
designator *  value TSM102A  Reference: U
Dual Operational Amplifier and Dual Comparator and 0.4% Voltage Reference, SOIC-16; ki_keywords: dual opamp comparator reference; ki_fp_filters: SOIC*3.9x9.9mm*P1.27mm*; Footprint: Package_SO:SOIC-16_3.9x9.9mm_P1.27mm; Datasheet: http://www.st.com/resource/en/datasheet/tsm102.pdf; Description_: Dual Operational Amplifier and Dual Comparator and 0.4% Voltage Reference, SOIC-16
part A pins: 1, 2 -, 3 +
part B pins: 5 +, 6 -, 7
part C pins: 10, 11 -, 12 +
part D pins: 14 +, 15 -, 16
part E pins: 4 V+, 8, 9, 13 V-
part A text: COMP
part D text: COMP

## TSM103W
designator *  value TSM103W  Reference: U
Dual Operational Amplifier and 2.5V 1% Voltage Reference, SOIC-8; ki_keywords: dual opamp reference; ki_fp_filters: SOIC*3.9x4.9mm*P1.27mm*; Footprint: Package_SO:SOIC-8_3.9x4.9mm_P1.27mm; Datasheet: http://www.st.com/resource/en/datasheet/tsm103w.pdf; Description_: Dual Operational Amplifier and 2.5V 1% Voltage Reference, SOIC-8
part A pins: 1, 2 -, 3 +, 4 V-, 8 V+
part B pins: 4 V-, 5 +, 6 -, 7, 8 V+

## TSM103WA
designator *  value TSM103WA  Reference: U
Dual Operational Amplifier and 2.5V 0.4% Voltage Reference, SOIC-8; ki_keywords: dual opamp reference; ki_fp_filters: SOIC*3.9x4.9mm*P1.27mm*; Footprint: Package_SO:SOIC-8_3.9x4.9mm_P1.27mm; Datasheet: http://www.st.com/resource/en/datasheet/tsm103w.pdf; Description_: Dual Operational Amplifier and 2.5V 0.4% Voltage Reference, SOIC-8
part A pins: 1, 2 -, 3 +, 4 V-, 8 V+
part B pins: 4 V-, 5 +, 6 -, 7, 8 V+

## UCC39002D
designator *  value UCC39002D  Reference: U
Advanced 8-Pin Load-Share Controller, SOIC-8; ki_keywords: load share controller; ki_fp_filters: SOIC*3.9x4.9mm*P1.27mm*; Footprint: Package_SO:SOIC-8_3.9x4.9mm_P1.27mm; Datasheet: http://www.ti.com/lit/ds/slus495i/slus495i.pdf; Description_: Advanced 8-Pin Load-Share Controller, SOIC-8
pins: 1 CS-, 2 CS+, 3 VDD, 4 GND, 5 ADJ, 6 EAO, 7 LS, 8 CSO